# Altium footprint library esp32_30p.PcbLib: 2 footprints
Each footprint in its own frame and in the unit in brackets; x right, y up, seen from the top. Pads: shape width x height; smd on the part's side, far side on the other; paste and mask are expansions set on the pad; w line width, h text height; cw(c..) or ccw(c..) is an arc to the next point about the centre after c.
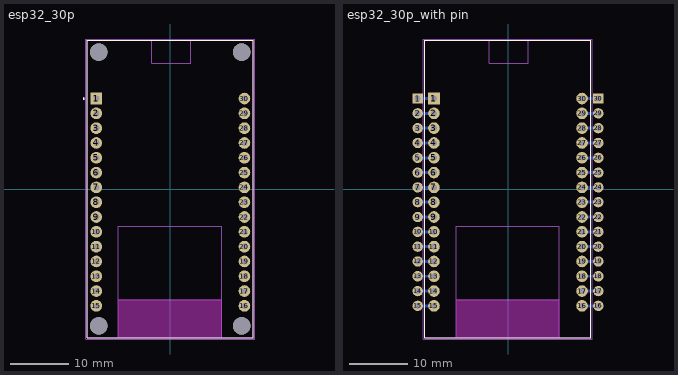
[diagram p0: the footprints below, top view; thin cyan lines are the x and y axes]

## esp32_30p [mm]
height 6.8
pads (34):
  rect 2x2 / inner round 2 / far side rect 2x2 hole 1.02: 1(-12.7,15.515)
  round 2 hole 1.02: 2(-12.7,12.975) 3(-12.7,10.435) 4(-12.7,7.895) 5(-12.7,5.355) 6(-12.7,2.815) 7(-12.7,0.275) 8(-12.7,-2.265) 9(-12.7,-4.805) 10(-12.7,-7.345) 11(-12.7,-9.885) 12(-12.7,-12.425) 13(-12.7,-14.965) 14(-12.7,-17.505) 15(-12.7,-20.045) 16(12.7,-20.045) 17(12.7,-17.505) 18(12.7,-14.965) 19(12.7,-12.425) 20(12.7,-9.885) 21(12.7,-7.345) 22(12.7,-4.805) 23(12.7,-2.265) 24(12.7,0.275) 25(12.7,2.815) 26(12.7,5.355) 27(12.7,7.895) 28(12.7,10.435) 29(12.7,12.975) 30(12.7,15.515)
  round 3 hole 3 unplated: ""(-12.28,-23.475) ""(-12.28,23.475) ""(12.23,-23.475) ""(12.23,23.475)
Top Overlay:
  circle w0.2: c-14.85,15.515 r0.1
  lines w0.127: -14.28,-25.475 14.23,-25.475 ; -14.28,-25.475 -14.28,25.475 ; -14.28,-25.475 -14.28,25.475 ; -14.28,-25.475 -8.91,-25.475 8.78,-25.475 14.23,-25.475 ; -14.28,25.475 14.23,25.475 ; -14.28,25.475 -3.211,25.475 3.5,25.475 14.23,25.475 ; 14.23,-25.475 14.23,25.475 ; 14.23,-25.475 14.23,25.475
Keep-Out Layer:
  region: 8.78,-25.475 -8.91,-25.475 -8.91,-18.985 8.78,-18.985
  region: 8.78,-25.475 -8.91,-25.475 -8.91,-18.985 8.78,-18.985
Mechanical 13:
  circle w0.2: c-14.85,15.515 r0.1
  lines w0.127: -8.91,-25.475 -14.28,-25.475 -14.28,25.475 -3.211,25.475 ; -8.91,-25.475 8.78,-25.475 ; -8.91,-25.475 -8.91,-18.985 ; -8.91,-18.985 -8.91,-6.355 8.78,-6.355 8.78,-18.985 ; -8.91,-18.985 8.78,-18.985 ; -3.211,25.475 3.5,25.475 ; -3.211,25.475 -3.211,21.585 3.5,21.585 3.5,25.475 ; 3.5,25.475 14.23,25.475 14.23,-25.475 8.78,-25.475 ; 8.78,-25.475 8.78,-18.985
Mechanical 15:
  lines w0.05: -14.53,-25.725 -14.53,25.725 14.48,25.725 14.48,-25.725 -14.53,-25.725
3D body "esp32_dev_kit_v1_asm.stp": height 14.37, standoff -0.63, extent -14.097,-26.258 14.053,25.242

## esp32_30p_with pin [mm]
pads (60):
  rect 1.778x1.778 hole 1.016: 1(-15.494,15.515) 30(15.494,15.515)
  rect 2x2 / inner round 2 / far side rect 2x2 hole 1.02: 1(-12.7,15.515)
  round 1.778 hole 1.016: 2(-15.494,12.975) 3(-15.494,10.435) 4(-15.494,7.895) 5(-15.494,5.355) 6(-15.494,2.815) 7(-15.494,0.275) 8(-15.494,-2.265) 9(-15.494,-4.805) 10(-15.494,-7.345) 11(-15.494,-9.885) 12(-15.494,-12.425) 13(-15.494,-14.965) 14(-15.494,-17.505) 15(-15.494,-20.045) 16(15.494,-20.045) 17(15.494,-17.505) 18(15.494,-14.965) 19(15.494,-12.425) 20(15.494,-9.885) 21(15.494,-7.345) 22(15.494,-4.805) 23(15.494,-2.265) 24(15.494,0.275) 25(15.494,2.815) 26(15.494,5.355) 27(15.494,7.895) 28(15.494,10.435) 29(15.494,12.975)
  round 2 hole 1.02: 2(-12.7,12.975) 3(-12.7,10.435) 4(-12.7,7.895) 5(-12.7,5.355) 6(-12.7,2.815) 7(-12.7,0.275) 8(-12.7,-2.265) 9(-12.7,-4.805) 10(-12.7,-7.345) 11(-12.7,-9.885) 12(-12.7,-12.425) 13(-12.7,-14.965) 14(-12.7,-17.505) 15(-12.7,-20.045) 16(12.7,-20.045) 17(12.7,-17.505) 18(12.7,-14.965) 19(12.7,-12.425) 20(12.7,-9.885) 21(12.7,-7.345) 22(12.7,-4.805) 23(12.7,-2.265) 24(12.7,0.275) 25(12.7,2.815) 26(12.7,5.355) 27(12.7,7.895) 28(12.7,10.435) 29(12.7,12.975) 30(12.7,15.515)
Bottom Layer:
  lines w0.508: -15.494,-20.045 -12.7,-20.045 ; -15.494,-17.505 -12.7,-17.505 ; -15.494,-14.965 -12.7,-14.965 ; -15.494,-12.425 -12.7,-12.425 ; -15.494,-9.885 -12.7,-9.885 ; -15.494,-7.345 -12.7,-7.345 ; -15.494,-4.805 -12.7,-4.805 ; -15.494,-2.265 -12.7,-2.265 ; -15.494,0.275 -12.7,0.275 ; -15.494,2.815 -12.7,2.815 ; -15.494,5.355 -12.7,5.355 ; -15.494,7.895 -12.7,7.895 ; -15.494,10.435 -12.7,10.435 ; -15.494,12.975 -12.7,12.975 ; -15.494,15.515 -12.7,15.515 ; 12.7,-20.045 15.494,-20.045 ; 12.7,-17.505 15.494,-17.505 ; 12.7,-14.965 15.494,-14.965 ; 12.7,-12.425 15.494,-12.425 ; 12.7,-9.885 15.494,-9.885 ; 12.7,-7.345 15.494,-7.345 ; 12.7,-4.805 15.494,-4.805 ; 12.7,-2.265 15.494,-2.265 ; 12.7,0.275 15.494,0.275 ; 12.7,2.815 15.494,2.815 ; 12.7,5.355 15.494,5.355 ; 12.7,7.895 15.494,7.895 ; 12.7,10.435 15.494,10.435 ; 12.7,12.975 15.494,12.975 ; 12.7,15.515 15.494,15.515
Top Overlay:
  circle w0.2: c-14.85,15.515 r0.1
  lines w0.127: -14.28,-25.475 -8.91,-25.475 8.78,-25.475 14.23,-25.475 ; -14.28,-25.475 -14.28,25.475 ; -14.28,-25.475 -14.28,25.475 ; -14.28,-25.475 14.23,-25.475 ; -14.28,25.475 -3.211,25.475 3.5,25.475 14.23,25.475 ; -14.28,25.475 14.23,25.475 ; 14.23,-25.475 14.23,25.475 ; 14.23,-25.475 14.23,25.475
Keep-Out Layer:
  region: 8.78,-25.475 -8.91,-25.475 -8.91,-18.985 8.78,-18.985
  region: 8.78,-25.475 -8.91,-25.475 -8.91,-18.985 8.78,-18.985
Mechanical 13:
  circle w0.2: c-14.85,15.515 r0.1
  lines w0.127: -8.91,-25.475 -8.91,-18.985 ; -8.91,-25.475 8.78,-25.475 ; -8.91,-25.475 -14.28,-25.475 -14.28,25.475 -3.211,25.475 ; -8.91,-18.985 8.78,-18.985 ; -8.91,-18.985 -8.91,-6.355 8.78,-6.355 8.78,-18.985 ; -3.211,25.475 -3.211,21.585 3.5,21.585 3.5,25.475 ; -3.211,25.475 3.5,25.475 ; 3.5,25.475 14.23,25.475 14.23,-25.475 8.78,-25.475 ; 8.78,-25.475 8.78,-18.985
Mechanical 15:
  lines w0.05: -14.53,-25.725 14.48,-25.725 14.48,25.725 -14.53,25.725 -14.53,-25.725
3D body "esp32_dev_kit_v1_asm.stp": height 14.37, standoff -0.63, extent -14.097,-26.258 14.053,25.242
3D body "2.54X2_pinheader_male.SLDPRT": height 8.3, standoff -5.7, extent 14.224,11.684 16.764,16.764
3D body "2.54X2_pinheader_male.SLDPRT": height 8.3, standoff -5.7, extent 14.224,6.604 16.764,11.684
3D body "2.54X2_pinheader_male.SLDPRT": height 8.3, standoff -5.7, extent 14.224,1.524 16.764,6.604
3D body "2.54X2_pinheader_male.SLDPRT": height 8.3, standoff -5.7, extent 14.224,-3.556 16.764,1.524
3D body "2.54X2_pinheader_male.SLDPRT": height 8.3, standoff -5.7, extent 14.224,-8.636 16.764,-3.556
3D body "2.54X2_pinheader_male.SLDPRT": height 8.3, standoff -5.7, extent 14.224,-13.716 16.764,-8.636
3D body "2.54X2_pinheader_male.SLDPRT": height 8.3, standoff -5.7, extent 14.224,-18.796 16.764,-13.716
3D body "2.54X1_pinheader_male.SLDPRT": height 8.3, standoff -5.7, extent 14.224,-21.336 16.764,-18.796
3D body "2.54X2_pinheader_male.SLDPRT": height 8.3, standoff -5.7, extent -16.764,-21.294 -14.224,-16.214
3D body "2.54X2_pinheader_male.SLDPRT": height 8.3, standoff -5.7, extent -16.764,-16.214 -14.224,-11.134
3D body "2.54X2_pinheader_male.SLDPRT": height 8.3, standoff -5.7, extent -16.764,-11.134 -14.224,-6.054
3D body "2.54X2_pinheader_male.SLDPRT": height 8.3, standoff -5.7, extent -16.764,-6.054 -14.224,-0.974
3D body "2.54X2_pinheader_male.SLDPRT": height 8.3, standoff -5.7, extent -16.764,-0.974 -14.224,4.106
3D body "2.54X2_pinheader_male.SLDPRT": height 8.3, standoff -5.7, extent -16.764,4.106 -14.224,9.186
3D body "2.54X2_pinheader_male.SLDPRT": height 8.3, standoff -5.7, extent -16.764,9.186 -14.224,14.266
3D body "2.54X1_pinheader_male.SLDPRT": height 8.3, standoff -5.7, extent -16.764,14.266 -14.224,16.806